# EAGLE library part SN74LVC07AIPWREP (library SamacSys_Parts)
Buffers & Line Drivers Mil Enhance Hex Buffer/Driver Source: Datasheet <https://www.arrow.com/en/products/sn74lvc07aipwrep/texas-instruments>
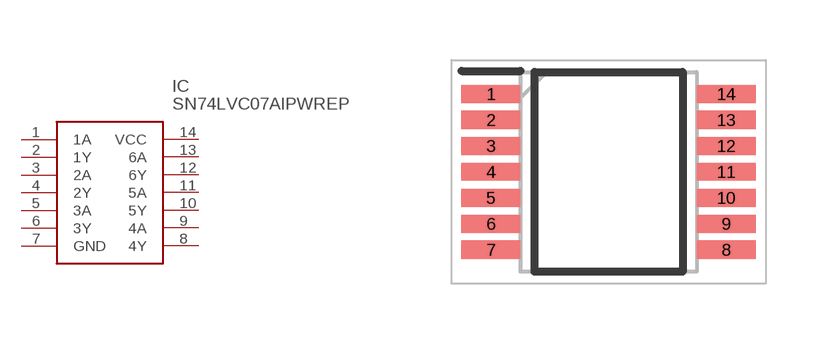
[diagram p154: symbol with the pads of SOP65P640X120-14N; footprint SOP65P640X120-14N]

Designator prefix IC

## SN74LVC07AIPWREP (DESCRIPTION: Buffers & Line Drivers Mil Enhance Hex Buffer/Driver; HEIGHT: 1.2mm; MANUFACTURER_NAME: Texas Instruments; MANUFACTURER_PART_NUMBER: SN74LVC07AIPWREP; MOUSER_PART_NUMBER: 595-SN74LVC07AIPWREP; MOUSER_PRICE-STOCK: https://www.mouser.co.uk/ProductDetail/Texas-Instruments/SN74LVC07AIPWREP?qs=UFeyouyReuFeQSYolrfVIw%3D%3D)  [SOP65P640X120-14N]
1  1A
2  1Y
3  2A
4  2Y
5  3A
6  3Y
7  GND
8  4Y
9  4A
10  5Y
11  5A
12  6Y
13  6A
14  VCC

## Footprint SOP65P640X120-14N (pad centres in mm)
14-Pin TSSOP-ren1
smd 1.475 x 0.45: 1 -2.938,1.95; 2 -2.938,1.3; 3 -2.938,0.65; 4 -2.938,0; 5 -2.938,-0.65; 6 -2.938,-1.3; 7 -2.938,-1.95; 8 2.938,-1.95; 9 2.938,-1.3; 10 2.938,-0.65; 11 2.938,0; 12 2.938,0.65; 13 2.938,1.3; 14 2.938,1.95